# Altium footprint library B105ic.PcbLib: 19 footprints (part 1 of 2)
Each footprint in its own frame and in the unit in brackets; x right, y up, seen from the top. Pads: shape width x height; smd on the part's side, far side on the other; paste and mask are expansions set on the pad; w line width, h text height; cw(c..) or ccw(c..) is an arc to the next point about the centre after c.
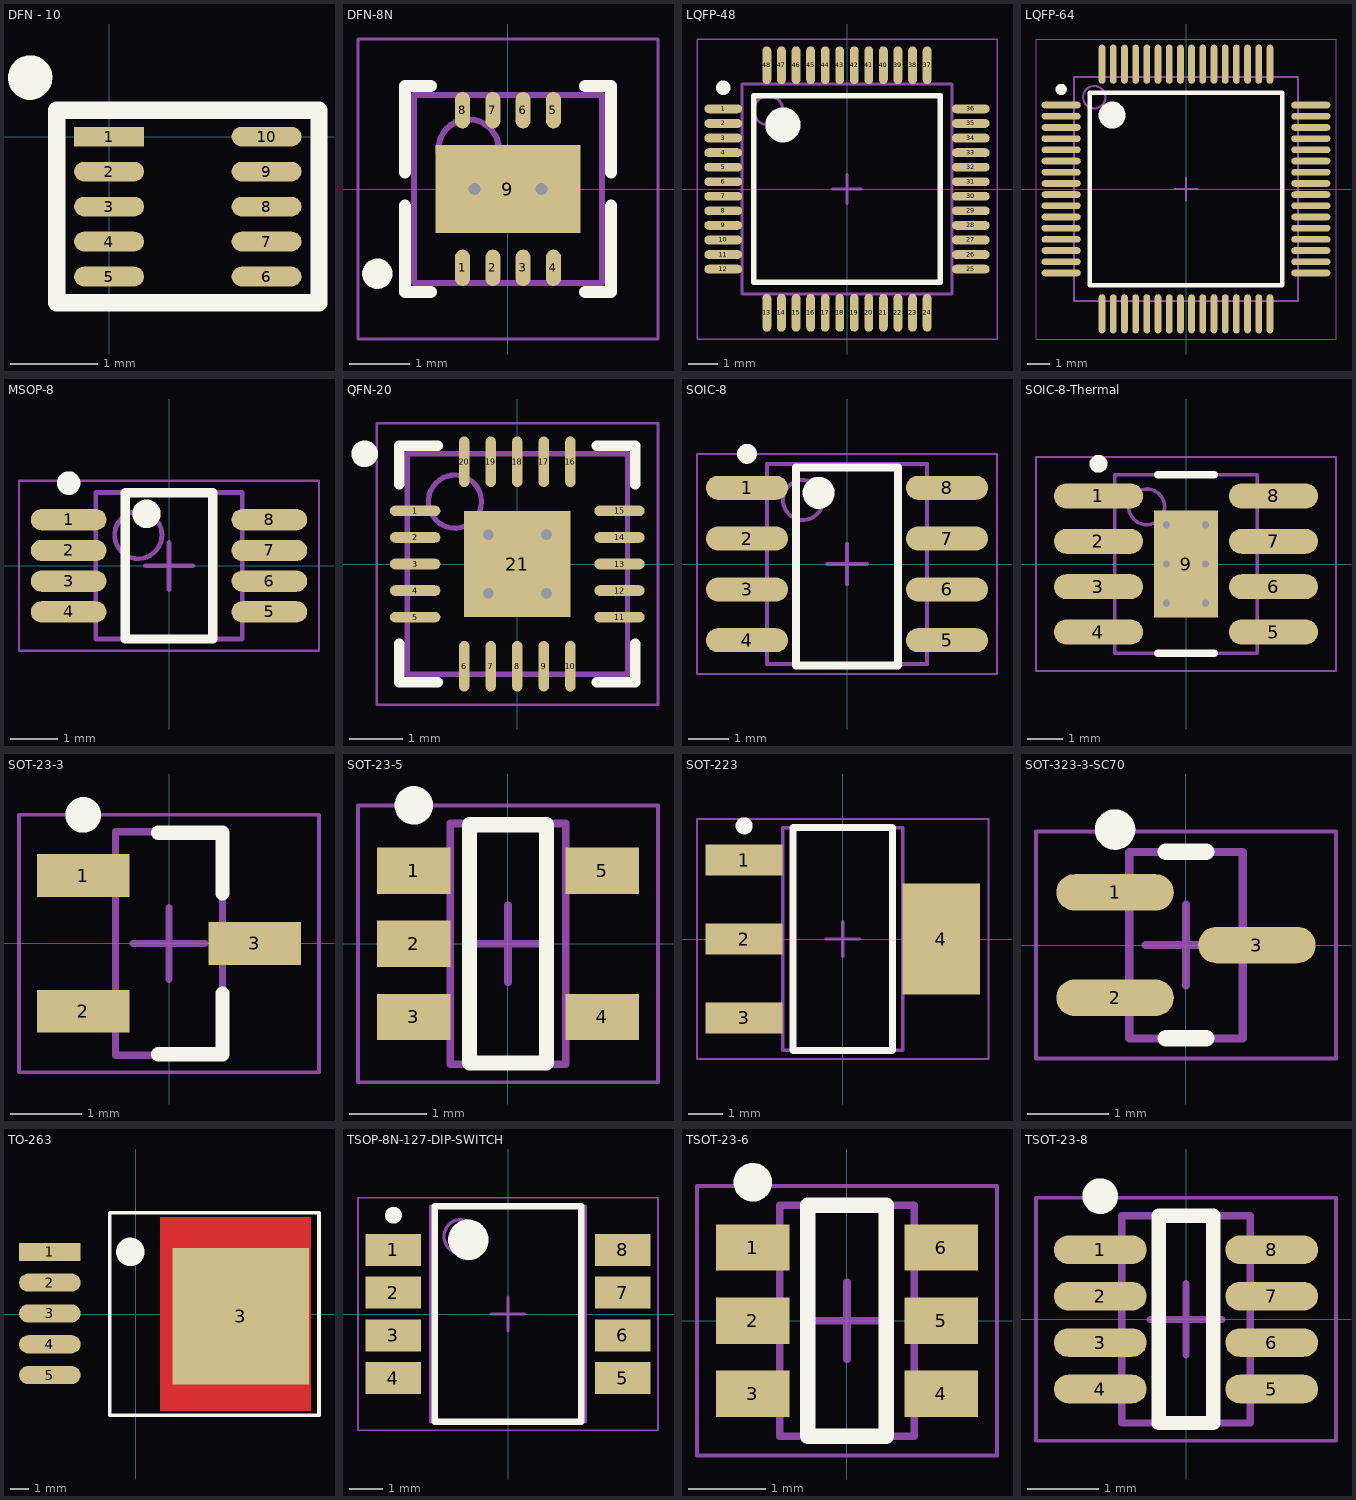
[diagram p0: the footprints below, top view; thin cyan lines are the x and y axes]

## DFN - 10 [mm]
pads (10):
  rect 0.8x0.225 smd mask+0.08: 1(0,0)
  oval 0.8x0.225 smd mask+0.08: 2(0,-0.4) 3(0,-0.8) 4(0,-1.2) 5(0,-1.6) 6(1.8,-1.6) 7(1.8,-1.2) 8(1.8,-0.8) 9(1.8,-0.4) 10(1.8,0)
Top Overlay:
  circle w0.254: c-0.902,0.675 r0.127
  lines w0.2: -0.6,-1.9 -0.6,0.3 2.4,0.3 2.4,-1.9 -0.6,-1.9
3D body: height 0.75, standoff -0.05, extent -0.076,-1.8 1.926,0.2

## DFN-8N [mm] "3mmx3mm"
height 0.8
pads (9):
  oval 0.25x0.6 smd: 1(-0.75,-1.3) 2(-0.25,-1.3) 3(0.25,-1.3) 4(0.75,-1.3) 5(0.75,1.3) 6(0.25,1.3) 7(-0.25,1.3) 8(-0.75,1.3)
  rect 2.4x1.45 smd: 9(0,0)
via -0.55,0 diameter 0.5 hole 0.2
via 0.55,0 diameter 0.5 hole 0.2
Top Overlay:
  circle w0.25: c-2.157,-1.397 r0.125
  lines w0.2: -1.7,-0.275 -1.7,-1.7 -1.275,-1.7 ; -1.7,0.275 -1.7,1.7 -1.275,1.7 ; 1.275,-1.7 1.7,-1.7 1.7,-0.275 ; 1.275,1.7 1.7,1.7 1.7,0.275
Mechanical 13:
  circle w0.1: c-0.65,0.65 r0.5
  lines w0.1: -1.55,-1.55 -1.55,1.55 1.55,1.55 1.55,-1.55 -1.55,-1.55
Mechanical 15:
  lines w0.05: -2.475,-2.475 -2.475,2.475 2.475,2.475 2.475,-2.475 -2.475,-2.475
  lines w0.1: -0.5,0 0.5,0 ; 0,-0.5 0,0.5
3D body: height 0.8, standoff 0, extent -1.5,-1.51 1.5,1.51

## LQFP-48 [mm] "TSQFP, 48-Leads, Body 7,20x7,20mm, Pitch 0,50mm, IPC Medium Density"
height 1.45
pads (48):
  oval 1.3x0.3 smd: 1(-4.25,2.75) 2(-4.25,2.25) 3(-4.25,1.75) 4(-4.25,1.25) 5(-4.25,0.75) 6(-4.25,0.25) 7(-4.25,-0.25) 8(-4.25,-0.75) 9(-4.25,-1.25) 10(-4.25,-1.75) 11(-4.25,-2.25) 12(-4.25,-2.75) 25(4.25,-2.75) 26(4.25,-2.25) 27(4.25,-1.75) 28(4.25,-1.25) 29(4.25,-0.75) 30(4.25,-0.25) 31(4.25,0.25) 32(4.25,0.75) 33(4.25,1.25) 34(4.25,1.75) 35(4.25,2.25) 36(4.25,2.75)
  oval 0.3x1.3 smd: 13(-2.75,-4.25) 14(-2.25,-4.25) 15(-1.75,-4.25) 16(-1.25,-4.25) 17(-0.75,-4.25) 18(-0.25,-4.25) 19(0.25,-4.25) 20(0.75,-4.25) 21(1.25,-4.25) 22(1.75,-4.25) 23(2.25,-4.25) 24(2.75,-4.25) 37(2.75,4.25) 38(2.25,4.25) 39(1.75,4.25) 40(1.25,4.25) 41(0.75,4.25) 42(0.25,4.25) 43(-0.25,4.25) 44(-0.75,4.25) 45(-1.25,4.25) 46(-1.75,4.25) 47(-2.25,4.25) 48(-2.75,4.25)
Top Overlay:
  circle w0.6: c-2.2,2.2 r0.3
  circle w0.25: c-4.25,3.475 r0.125
  lines w0.2: -3.2,-3.2 3.2,-3.2 3.2,3.2 -3.2,3.2 -3.2,-3.2
Mechanical 13:
  circle w0.1: c-2.7,2.7 r0.5
  lines w0.1: -3.6,-3.6 3.6,-3.6 3.6,3.6 -3.6,3.6 -3.6,-3.6
Mechanical 15:
  lines w0.05: -5.15,-5.15 5.15,-5.15 5.15,5.15 -5.15,5.15 -5.15,-5.15
  lines w0.1: -0.5,0 0.5,0 ; 0,-0.5 0,0.5
3D body: height 1.56, standoff 0, extent -4.5,-4.512 4.5,4.488

## LQFP-64 [mm] "TSQFP, 64-Leads, Body 10,00x10,00mm, Pitch 0,50mm, IPC Medium Density"
height 1.6
pads (64):
  oval 1.75x0.3 smd: 1(-5.575,3.75) 2(-5.575,3.25) 3(-5.575,2.75) 4(-5.575,2.25) 5(-5.575,1.75) 6(-5.575,1.25) 7(-5.575,0.75) 8(-5.575,0.25) 9(-5.575,-0.25) 10(-5.575,-0.75) 11(-5.575,-1.25) 12(-5.575,-1.75) 13(-5.575,-2.25) 14(-5.575,-2.75) 15(-5.575,-3.25) 16(-5.575,-3.75) 33(5.575,-3.75) 34(5.575,-3.25) 35(5.575,-2.75) 36(5.575,-2.25) 37(5.575,-1.75) 38(5.575,-1.25) 39(5.575,-0.75) 40(5.575,-0.25) 41(5.575,0.25) 42(5.575,0.75) 43(5.575,1.25) 44(5.575,1.75) 45(5.575,2.25) 46(5.575,2.75) 47(5.575,3.25) 48(5.575,3.75)
  oval 0.3x1.75 smd: 17(-3.75,-5.575) 18(-3.25,-5.575) 19(-2.75,-5.575) 20(-2.25,-5.575) 21(-1.75,-5.575) 22(-1.25,-5.575) 23(-0.75,-5.575) 24(-0.25,-5.575) 25(0.25,-5.575) 26(0.75,-5.575) 27(1.25,-5.575) 28(1.75,-5.575) 29(2.25,-5.575) 30(2.75,-5.575) 31(3.25,-5.575) 32(3.75,-5.575) 49(3.75,5.575) 50(3.25,5.575) 51(2.75,5.575) 52(2.25,5.575) 53(1.75,5.575) 54(1.25,5.575) 55(0.75,5.575) 56(0.25,5.575) 57(-0.25,5.575) 58(-0.75,5.575) 59(-1.25,5.575) 60(-1.75,5.575) 61(-2.25,5.575) 62(-2.75,5.575) 63(-3.25,5.575) 64(-3.75,5.575)
Top Overlay:
  circle w0.25: c-5.575,4.45 r0.125
  circle w0.6: c-3.3,3.3 r0.3
  lines w0.2: -4.3,-4.3 -4.3,4.3 4.3,4.3 4.3,-4.3 -4.3,-4.3
Mechanical 13:
  circle w0.1: c-4.1,4.1 r0.5
  lines w0.1: -5,-5 -5,5 5,5 5,-5 -5,-5
Mechanical 15:
  lines w0.05: -6.7,-6.7 -6.7,6.7 6.7,6.7 6.7,-6.7 -6.7,-6.7
  lines w0.1: -0.5,0 0.5,0 ; 0,-0.5 0,0.5
3D body: height 1.62, standoff -0.01, extent -6.072,-6.072 6.072,6.072

## MSOP-8 [mm] "TSOP, 8-Leads, Body 3,00x3,00mm, Pitch 0,65mm, IPC Medium Density"
height 0.9
pads (8):
  oval 1.6x0.45 smd: 1(-2.125,0.975) 2(-2.125,0.325) 3(-2.125,-0.325) 4(-2.125,-0.975) 5(2.125,-0.975) 6(2.125,-0.325) 7(2.125,0.325) 8(2.125,0.975)
Top Overlay:
  circle w0.25: c-2.125,1.75 r0.125
  circle w0.4: c-0.475,1.1 r0.1
  lines w0.2: -0.925,-1.55 -0.925,1.55 0.925,1.55 0.925,-1.55 -0.925,-1.55
Mechanical 13:
  circle w0.1: c-0.65,0.65 r0.5
  lines w0.1: -1.55,-1.55 -1.55,1.55 1.55,1.55 1.55,-1.55 -1.55,-1.55
Mechanical 15:
  lines w0.05: -3.175,-1.8 -3.175,1.8 3.175,1.8 3.175,-1.8 -3.175,-1.8
  lines w0.1: -0.5,0 0.5,0 ; 0,-0.5 0,0.5
3D body: height 1.09, standoff -0.01, extent -2.413,-1.524 2.587,1.476

## QFN-20 [mm] "QFN, 20-Leads, Body 4,00x4,00mm, Pitch 0,50mm, Thermal Pad 2,00x2,00mm, IPC Medium Density"
height 0.8
pads (21):
  oval 0.95x0.2 smd: 1(-1.925,1) 2(-1.925,0.5) 3(-1.925,0) 4(-1.925,-0.5) 5(-1.925,-1) 11(1.925,-1) 12(1.925,-0.5) 13(1.925,0) 14(1.925,0.5) 15(1.925,1)
  oval 0.2x0.95 smd: 6(-1,-1.925) 7(-0.5,-1.925) 8(0,-1.925) 9(0.5,-1.925) 10(1,-1.925) 16(1,1.925) 17(0.5,1.925) 18(0,1.925) 19(-0.5,1.925) 20(-1,1.925)
  rect 2x2 smd: 21(0,0)
via -0.55,0.55 diameter 0.5 hole 0.2
via 0.55,0.55 diameter 0.5 hole 0.2
via -0.55,-0.55 diameter 0.5 hole 0.2
via 0.55,-0.55 diameter 0.5 hole 0.2
Top Overlay:
  circle w0.25: c-2.875,2.075 r0.125
  lines w0.2: -2.225,-1.5 -2.225,-2.225 -1.5,-2.225 ; -2.225,1.5 -2.225,2.225 -1.5,2.225 ; 1.5,-2.225 2.225,-2.225 2.225,-1.5 ; 1.5,2.225 2.225,2.225 2.225,1.5
Mechanical 13:
  circle w0.1: c-1.175,1.175 r0.5
  lines w0.1: -2.075,-2.075 -2.075,2.075 2.075,2.075 2.075,-2.075 -2.075,-2.075
Mechanical 15:
  lines w0.05: -2.65,-2.65 -2.65,2.65 2.65,2.65 2.65,-2.65 -2.65,-2.65
  lines w0.1: -0.5,0 0.5,0 ; 0,-0.5 0,0.5
3D body: height 0.92, standoff 0, extent -2,-2 2,2

## SOIC-8 [mm] "SOIC, 8-Leads, Body 4,90x3,90mm, Pitch 1,27mm, IPC Medium Density"
height 0.9
pads (8):
  oval 2.05x0.6 smd: 1(-2.5,1.905) 2(-2.5,0.635) 3(-2.5,-0.635) 4(-2.5,-1.905) 5(2.5,-1.905) 6(2.5,-0.635) 7(2.5,0.635) 8(2.5,1.905)
Top Overlay:
  circle w0.25: c-2.5,2.755 r0.125
  circle w0.4: c-0.708,1.778 r0.2
  lines w0.2: -1.27,-2.54 -1.27,2.413 1.27,2.413 1.27,-2.54 -1.27,-2.54
Mechanical 13:
  circle w0.1: c-1.1,1.6 r0.5
  lines w0.1: -2,-2.5 -2,2.5 2,2.5 2,-2.5 -2,-2.5
Mechanical 15:
  lines w0.05: -3.75,-2.75 -3.75,2.75 3.75,2.75 3.75,-2.75 -3.75,-2.75
  lines w0.1: -0.5,0 0.5,0 ; 0,-0.5 0,0.5
3D body: height 1.75, standoff 0, extent -3,-2.437 3,2.463

## SOIC-8-Thermal [mm] "SOIC, 8-Leads, Body 4.90x3.90mm, Pitch 1.27mm, Thermal Pad 3.00.2x1.80.2mm, IPC Low Density"
height 1.7
pads (9):
  oval 2.5x0.7 smd: 1(-2.45,1.905) 2(-2.45,0.635) 3(-2.45,-0.635) 4(-2.45,-1.905) 5(2.45,-1.905) 6(2.45,-0.635) 7(2.45,0.635) 8(2.45,1.905)
  rect 1.8x3 smd: 9(0,0)
via -0.55,1.1 diameter 0.5 hole 0.2
via 0.55,1.1 diameter 0.5 hole 0.2
via -0.55,0 diameter 0.5 hole 0.2
via 0.55,0 diameter 0.5 hole 0.2
via -0.55,-1.1 diameter 0.5 hole 0.2
via 0.55,-1.1 diameter 0.5 hole 0.2
Top Overlay:
  circle w0.25: c-2.45,2.805 r0.125
  lines w0.2: -0.8,-2.5 0.8,-2.5 ; -0.8,2.5 0.8,2.5
Mechanical 13:
  circle w0.1: c-1.1,1.6 r0.5
  lines w0.1: -2,-2.5 -2,2.5 2,2.5 2,-2.5 -2,-2.5
Mechanical 15:
  lines w0.05: -4.2,-3 -4.2,3 4.2,3 4.2,-3 -4.2,-3
  lines w0.1: -0.5,0 0.5,0 ; 0,-0.5 0,0.5
3D body: height 1.75, standoff 0, extent -3,-2.45 3,2.45

## SOT-23-3 [mm] "SOT23, 3-Leads, Body 2,93x2,80mm, Pitch 0,95mm, IPC Medium Density"
height 0.9
pads (3):
  rect 1.3x0.6 smd: 1(-1.2,0.95) 2(-1.2,-0.95) 3(1.2,0)
Top Overlay:
  circle w0.25: c-1.2,1.8 r0.125
  lines w0.2: -0.15,-1.55 0.75,-1.55 0.75,-0.7 ; -0.15,1.55 0.75,1.55 0.75,0.7
Mechanical 13:
  lines w0.1: -0.75,-1.565 -0.75,1.565 0.75,1.565 0.75,-1.565 -0.75,-1.565
Mechanical 15:
  lines w0.05: -2.1,-1.8 -2.1,1.8 2.1,1.8 2.1,-1.8 -2.1,-1.8
  lines w0.1: -0.5,0 0.5,0 ; 0,-0.5 0,0.5
3D body: height 1.3, standoff 0, extent -1.4,-1.45 1.4,1.45

## SOT-23-5 [mm] "SOT23, 5-Leads, Body 2,93x2,80mm, Pitch 0,95mm, IPC Medium Density"
height 0.9
pads (5):
  rect 0.95x0.6 smd: 1(-1.225,0.95) 2(-1.225,0) 3(-1.225,-0.95) 4(1.225,-0.95) 5(1.225,0.95)
Top Overlay:
  circle w0.25: c-1.225,1.8 r0.125
  lines w0.2: -0.5,-1.55 0.5,-1.55 0.5,1.55 -0.5,1.55 -0.5,-1.55
Mechanical 13:
  lines w0.1: -0.75,-1.565 -0.75,1.565 0.75,1.565 0.75,-1.565 -0.75,-1.565
Mechanical 15:
  lines w0.05: -1.95,-1.8 -1.95,1.8 1.95,1.8 1.95,-1.8 -1.95,-1.8
  lines w0.1: -0.5,0 0.5,0 ; 0,-0.5 0,0.5
3D body: height 1.4, standoff -0.06, extent -1.5,-1.5 1.5,1.5

## SOT-223 [mm] "SOT223, 4-Leads, Body 6,40x7,00mm (avg), Pitch 2,30mm, IPC Medium Density"
height 1.8
pads (4):
  rect 2.25x0.9 smd: 1(-2.875,2.3) 2(-2.875,0) 3(-2.875,-2.3)
  rect 2.25x3.25 smd: 4(2.875,0)
Top Overlay:
  circle w0.25: c-2.875,3.3 r0.125
  lines w0.2: -1.45,-3.25 1.45,-3.25 1.45,3.25 -1.45,3.25 -1.45,-3.25
Mechanical 13:
  lines w0.1: -1.75,-3.25 1.75,-3.25 1.75,3.25 -1.75,3.25 -1.75,-3.25
Mechanical 15:
  lines w0.05: -4.25,-3.5 4.25,-3.5 4.25,3.5 -4.25,3.5 -4.25,-3.5
  lines w0.1: -0.5,0 0.5,0 ; 0,-0.5 0,0.5
3D body: height 1.85, standoff -0.05, extent -3.525,-3.398 3.68,3.302

## SOT-323-3-SC70 [mm] "TSOP, 3-Leads, Body 2,03x1,25mm, Pitch 0,65mm, IPC Medium Density"
height 0.9
pads (3):
  oval 1.45x0.45 smd: 1(-0.875,0.65) 2(-0.875,-0.65) 3(0.875,0)
Top Overlay:
  circle w0.25: c-0.875,1.425 r0.125
  lines w0.2: -0.25,-1.15 0.25,-1.15 ; -0.25,1.15 0.25,1.15
Mechanical 13:
  lines w0.1: -0.7,-1.15 -0.7,1.15 0.7,1.15 0.7,-1.15 -0.7,-1.15
Mechanical 15:
  lines w0.05: -1.85,-1.4 -1.85,1.4 1.85,1.4 1.85,-1.4 -1.85,-1.4
  lines w0.1: -0.5,0 0.5,0 ; 0,-0.5 0,0.5
3D body: height 1.1, standoff 0, extent -1.122,-1.1 1.123,1.1

## TO-263 [mm]
pads (6):
  rect 3.4x1 smd: 1(-4.754,3.446)
  oval 3.4x1 smd: 2(-4.754,1.746) 3(-4.754,0.046) 4(-4.754,-1.654) 5(-4.754,-3.354)
  rect 7.524x7.524 smd: 3(5.787,-0.11)
Top Layer:
  region: 1.342,-5.317 9.66,-5.317 9.66,5.351 1.342,5.351
Top Overlay:
  circle w1: c-0.309,3.446 r0.284
  lines w0.2: -1.452,-5.571 10.105,-5.571 10.105,5.605 -1.452,5.605 -1.452,-5.571
3D body: height 4.56, standoff 0, extent -5.18,-5.063 8.834,5.097

## TSOP-8N-127-DIP-SWITCH [mm] "TSOP, 8-Leads, Body 6.35x4.50mm, Pitch 1.27mm, IPC Medium Density"
height 1.4
pads (8):
  rect 1.65x0.95 smd: 1(-3.4,1.905) 2(-3.4,0.635) 3(-3.4,-0.635) 4(-3.4,-1.905) 5(3.4,-1.905) 6(3.4,-0.635) 7(3.4,0.635) 8(3.4,1.905)
Top Overlay:
  circle w0.6: c-1.175,2.2 r0.3
  circle w0.25: c-3.4,2.93 r0.125
  lines w0.2: -2.175,-3.2 2.175,-3.2 2.175,3.2 -2.175,3.2 -2.175,-3.2
Mechanical 13:
  circle w0.1: c-1.4,2.3 r0.5
  lines w0.1: -2.3,-3.2 2.3,-3.2 2.3,3.2 -2.3,3.2 -2.3,-3.2
Mechanical 15:
  lines w0.05: -4.45,-3.45 4.45,-3.45 4.45,3.45 -4.45,3.45 -4.45,-3.45
  lines w0.1: -0.5,0 0.5,0 ; 0,-0.5 0,0.5
3D body: height 1.5, standoff 0, extent -3.488,-3.135 3.488,3.175

## TSOT-23-6 [mm] "SOT23, 6-Leads, Body 2,95x2,80mm, Pitch 0,95mm, IPC Medium Density"
height 0.9
pads (6):
  rect 0.95x0.6 smd: 1(-1.225,0.95) 2(-1.225,0) 3(-1.225,-0.95) 4(1.225,-0.95) 5(1.225,0) 6(1.225,0.95)
Top Overlay:
  circle w0.25: c-1.225,1.8 r0.125
  lines w0.2: -0.508,-1.5 -0.508,1.5 0.508,1.5 0.508,-1.5 -0.508,-1.5
Mechanical 13:
  lines w0.1: -0.875,-1.5 0.875,-1.5 0.875,1.5 -0.875,1.5 -0.875,-1.5
Mechanical 15:
  lines w0.05: -1.95,-1.75 1.95,-1.75 1.95,1.75 -1.95,1.75 -1.95,-1.75
  lines w0.1: -0.5,0 0.5,0 ; 0,-0.5 0,0.5
3D body: height 0.86, standoff 0, extent -1.405,-1.5 1.405,1.5

## TSOT-23-8 [mm] "TSOP, 8-Leads, Body 2,90x1,63mm, Pitch 0,65mm, IPC Medium Density"
height 0.9
pads (8):
  oval 1.3x0.4 smd: 1(-1.2,0.975) 2(-1.2,0.325) 3(-1.2,-0.325) 4(-1.2,-0.975) 5(1.2,-0.975) 6(1.2,-0.325) 7(1.2,0.325) 8(1.2,0.975)
Top Overlay:
  circle w0.25: c-1.2,1.725 r0.125
  lines w0.2: -0.381,-1.45 0.381,-1.45 0.381,1.45 -0.381,1.45 -0.381,-1.45
Mechanical 13:
  lines w0.1: -0.9,-1.45 0.9,-1.45 0.9,1.45 -0.9,1.45 -0.9,-1.45
Mechanical 15:
  lines w0.05: -2.1,-1.7 2.1,-1.7 2.1,1.7 -2.1,1.7 -2.1,-1.7
  lines w0.1: -0.5,0 0.5,0 ; 0,-0.5 0,0.5
3D body: height 1, standoff 0, extent -1.4,-1.45 1.4,1.45